# Altium footprint library sm_resistor.PcbLib: 28 footprints (part 1 of 2)
Each footprint in its own frame and in the unit in brackets; x right, y up, seen from the top. Pads: shape width x height; smd on the part's side, far side on the other; paste and mask are expansions set on the pad; w line width, h text height; cw(c..) or ccw(c..) is an arc to the next point about the centre after c.
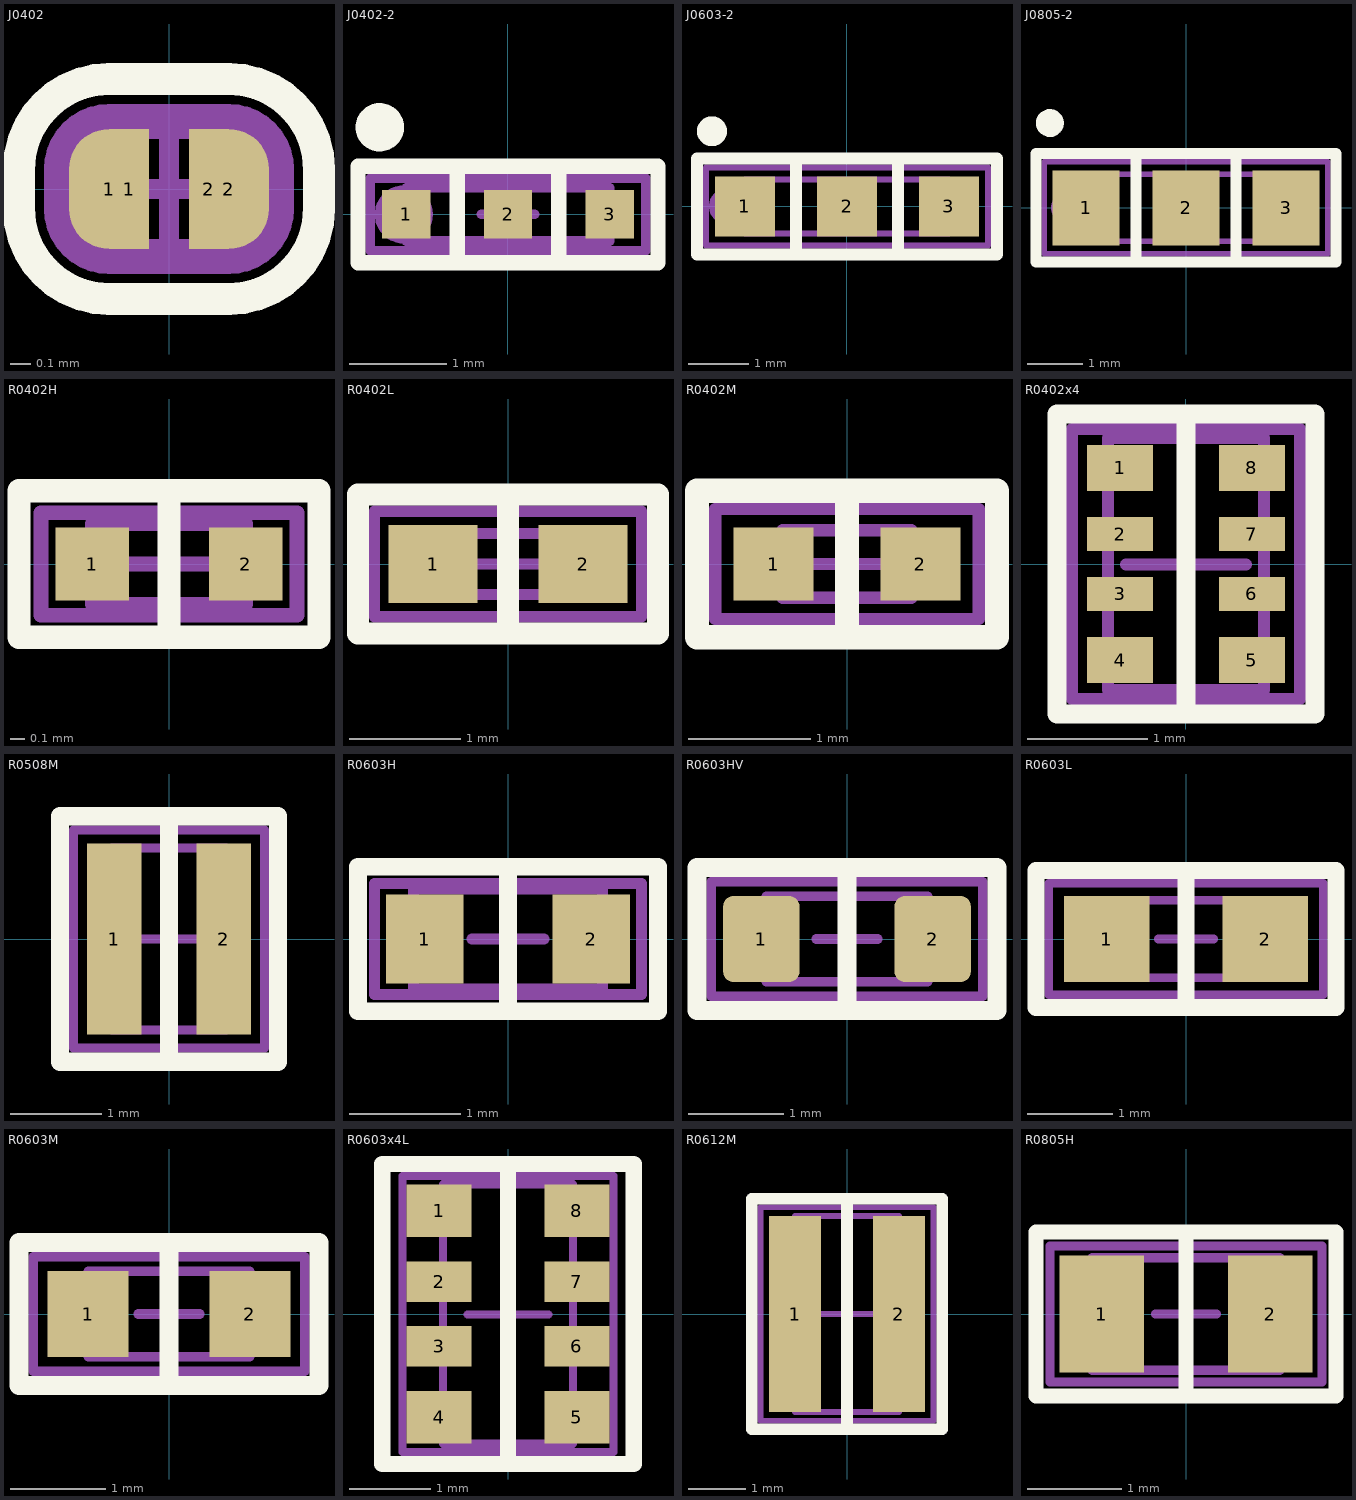
[diagram p0: the footprints below, top view; thin cyan lines are the x and y axes]

## J0402 [mm] "Jumper"
pads (4):
  rrect100% 0.4x0.6 smd paste-0.3: 1(-0.3,0)
  rect 0.2x0.6 smd paste-0.1: 1(-0.2,0) 2(0.2,0)
  oval 0.4x0.6 smd paste-0.3: 2(0.3,0)
Top Overlay:
  lines w0.16: -0.75,-0.1 ccw(c-0.3,-0.1) -0.3,-0.55 0.3,-0.55 ccw(c0.3,-0.1) 0.75,-0.1 0.75,0.1 ccw(c0.3,0.1) 0.3,0.55 -0.3,0.55 ccw(c-0.3,0.1) -0.75,0.1 -0.75,-0.1
Mechanical 13:
  lines w0.1: -0.275,0 0.275,0 ; 0,-0.275 0,0.275 ; -0.5,-0.1 ccw(c-0.3,-0.1) -0.3,-0.3 0.3,-0.3 ccw(c0.3,-0.1) 0.5,-0.1 0.5,0.1 ccw(c0.3,0.1) 0.3,0.3 -0.3,0.3 ccw(c-0.3,0.1) -0.5,0.1 -0.5,-0.1
Mechanical 15:
  lines w0.1: -0.575,-0.1 ccw(c-0.3,-0.1) -0.3,-0.375 0.3,-0.375 ccw(c0.3,-0.1) 0.575,-0.1 0.575,0.1 ccw(c0.3,0.1) 0.3,0.375 -0.3,0.375 ccw(c-0.3,0.1) -0.575,0.1 -0.575,-0.1
  text ".Designator" at -0.45,-0.25 h0.5
3D body: height 0.1, standoff 0, extent -0.299,-0.299 0.299,0.3

## J0402-2 [mm] "Chip Resistor, 2-Leads, Body 1.0x0.5mm, 2 Positions Jumper"
height 0.4
pads (3):
  rect 0.5x0.5 smd: 1(-1.05,0) 2(0,0) 3(1.05,0)
Top Overlay:
  circle w0.25: c-1.325,0.9 r0.125
  lines w0.16: -0.525,-0.5 -0.525,0.5 ; 0.525,-0.5 0.525,0.5 ; -1.55,-0.5 1.55,-0.5 1.55,0.5 -1.55,0.5 -1.55,-0.5
Mechanical 13:
  lines w0.1: -0.275,0 0.275,0 ; 0,-0.275 0,0.275 ; -1.05,-0.275 1.05,-0.275 1.05,0.275 -1.05,0.275 -1.05,-0.275
Mechanical 15:
  circle w0.1: c-1.076,0 r0.251
  lines w0.1: -1.425,-0.375 1.425,-0.375 1.425,0.375 -1.425,0.375 -1.425,-0.375
  text ".Designator" at -1.325,-0.25 h0.5
3D body: height 0.35, standoff 0, extent -0.225,-0.25 0.025,0.25
3D body: height 0.35, standoff 0, extent -1.075,-0.25 -0.825,0.25
3D body: height 0.35, standoff 0, extent -0.825,-0.25 -0.225,0.25

## J0603-2 [mm] "Chip Resistor, 2-Leads, Body 1.6x0.8mm - 2 Positions Jumper"
height 0.5
pads (3):
  rect 1x1 smd: 1(-1.7,0) 2(0,0) 3(1.7,0)
Top Overlay:
  circle w0.25: c-2.25,1.25 r0.125
  lines w0.2: -0.85,-0.8 -0.85,0.8 ; 0.85,-0.8 0.85,0.8 ; -2.5,-0.8 -2.5,0.8 2.5,0.8 2.5,-0.8 -2.5,-0.8
Mechanical 13:
  lines w0.1: -0.325,0 0.325,0 ; 0,-0.325 0,0.325 ; -1.7,-0.45 1.7,-0.45 1.7,0.45 -1.7,0.45 -1.7,-0.45
Mechanical 15:
  circle w0.1: c-2.001,0 r0.251
  lines w0.1: -2.35,-0.65 2.35,-0.65 2.35,0.65 -2.35,0.65 -2.35,-0.65
  text ".Designator" at -1.95,-0.225 h0.5
3D body: height 0.45, standoff 0, extent -1.35,-0.4 -0.35,0.4
3D body: height 0.45, standoff 0, extent -1.65,-0.4 -1.35,0.4
3D body: height 0.45, standoff 0, extent -0.35,-0.4 -0.05,0.4

## J0805-2 [mm] "Chip Resistor, 2-Leads, Body 2.0x1.3mm, 2 Positions Jumper"
height 0.7
pads (3):
  rect 1.2x1.35 smd: 1(-1.8,0) 2(0,0) 3(1.8,0)
Top Overlay:
  circle w0.25: c-2.45,1.525 r0.125
  lines w0.2: -0.9,-0.975 -0.9,0.975 ; 0.9,-0.975 0.9,0.975 ; -2.7,-0.975 2.7,-0.975 2.7,0.975 -2.7,0.975 -2.7,-0.975
Mechanical 13:
  lines w0.1: -0.325,0 0.325,0 ; 0,-0.325 0,0.325 ; -1.9,-0.6 1.9,-0.6 1.9,0.6 -1.9,0.6 -1.9,-0.6
Mechanical 15:
  circle w0.1: c-2.126,0 r0.251
  lines w0.1: -2.55,-0.825 -2.55,0.825 2.55,0.825 2.55,-0.825 -2.55,-0.825
  text ".Designator" at -1.475,-0.225 h0.5
3D body: height 0.6, standoff 0, extent -1.5,-0.6 -0.3,0.6
3D body: height 0.6, standoff 0, extent -1.9,-0.6 -1.5,0.6
3D body: height 0.6, standoff 0, extent -0.3,-0.6 0.1,0.6

## R0402H [mm] "Chip Resistor, 2-Leads, Body 1.0x0.5mm, IPC High Density"
height 0.4
pads (2):
  rect 0.5x0.5 smd: 1(-0.525,0) 2(0.525,0)
Top Overlay:
  lines w0.16: 0,-0.5 0,0.5 ; -1.025,-0.5 -1.025,0.5 1.025,0.5 1.025,-0.5 -1.025,-0.5
Mechanical 13:
  lines w0.1: -0.275,0 0.275,0 ; 0,-0.275 0,0.275 ; -0.525,-0.275 -0.525,0.275 0.525,0.275 0.525,-0.275 -0.525,-0.275
Mechanical 15:
  lines w0.1: -0.875,-0.35 -0.875,0.35 0.875,0.35 0.875,-0.35 -0.875,-0.35
  text ".Designator" at -0.8,-0.25 h0.5
3D body: height 0.35, standoff 0, extent -0.3,-0.25 0.3,0.25
3D body: height 0.35, standoff 0, extent -0.55,-0.25 -0.3,0.25
3D body: height 0.35, standoff 0, extent 0.3,-0.25 0.55,0.25

## R0402L [mm] "Chip Resistor, 2-Leads, Body 1.0x0.5mm, IPC Low Density"
height 0.35
pads (2):
  rect 0.8x0.7 smd: 1(-0.675,0) 2(0.675,0)
Top Overlay:
  lines w0.2: 0,-0.625 0,0.625 ; -1.35,-0.625 1.35,-0.625 1.35,0.625 -1.35,0.625 -1.35,-0.625
Mechanical 13:
  lines w0.1: -0.275,0 0.275,0 ; 0,-0.275 0,0.275 ; -0.525,-0.275 0.525,-0.275 0.525,0.275 -0.525,0.275 -0.525,-0.275
Mechanical 15:
  lines w0.1: -1.2,-0.475 1.2,-0.475 1.2,0.475 -1.2,0.475 -1.2,-0.475
  text ".Designator" at -0.8,-0.25 h0.5
3D body: height 0.35, standoff 0, extent 0.3,-0.25 0.55,0.25
3D body: height 0.35, standoff 0, extent -0.55,-0.25 -0.3,0.25
3D body: height 0.35, standoff 0, extent -0.3,-0.25 0.3,0.25

## R0402M [mm] "Chip Resistor, 2-Leads, Body 1.0x0.5mm, IPC Medium Density"
height 0.35
pads (2):
  rect 0.65x0.6 smd: 1(-0.6,0) 2(0.6,0)
Top Overlay:
  lines w0.2: 0,-0.6 0,0.6 ; -1.225,-0.6 1.225,-0.6 1.225,0.6 -1.225,0.6 -1.225,-0.6
Mechanical 13:
  lines w0.1: -0.275,0 0.275,0 ; 0,-0.275 0,0.275 ; -0.525,-0.275 0.525,-0.275 0.525,0.275 -0.525,0.275 -0.525,-0.275
Mechanical 15:
  lines w0.1: -1.075,-0.45 1.075,-0.45 1.075,0.45 -1.075,0.45 -1.075,-0.45
  text ".Designator" at -0.8,-0.25 h0.5
3D body: height 0.35, standoff 0, extent 0.3,-0.25 0.55,0.25
3D body: height 0.35, standoff 0, extent -0.55,-0.25 -0.3,0.25
3D body: height 0.35, standoff 0, extent -0.3,-0.25 0.3,0.25

## R0402x4 [mm]
pads (8):
  rect 0.55x0.38 smd: 1(-0.55,0.8) 4(-0.55,-0.8) 5(0.55,-0.8) 8(0.55,0.8)
  rect 0.55x0.28 smd: 2(-0.55,0.25) 3(-0.55,-0.25) 6(0.55,-0.25) 7(0.55,0.25)
Top Overlay:
  lines w0.16: 0,-1.25 0,1.25 ; -1.075,-1.25 -1.075,1.25 1.075,1.25 1.075,-1.25 -1.075,-1.25
Mechanical 13:
  lines w0.1: -0.5,-0.005 0.5,-0.005 ; 0,-0.505 0,0.495 ; -0.65,-1.05 -0.65,1.05 0.65,1.05 0.65,-1.05 -0.65,-1.05
Mechanical 15:
  lines w0.1: -0.95,-1.125 -0.95,1.125 0.95,1.125 0.95,-1.125 -0.95,-1.125
  text ".Designator" at 0.2,-1.1 h0.5
3D body "SW3dPS-YC124.step": height 0.36, standoff 0, extent -0.5,-1.005 0.5,0.995

## R0508M [mm] "Chip Resistor, 2-Leads, Body 2.0x1.25mm, IPC Medium Density"
height 0.5
pads (2):
  rect 0.6x2.1 smd: 1(-0.6,0) 2(0.6,0)
Top Overlay:
  lines w0.2: 0,-1.25 0,1.35 ; -1.2,-1.35 1.2,-1.35 1.2,1.35 -1.2,1.35 -1.2,-1.35
Mechanical 13:
  lines w0.1: -0.5,0 0.5,0 ; 0,-0.5 0,0.5 ; -0.625,-1 -0.625,1 0.625,1 0.625,-1 -0.625,-1
Mechanical 15:
  lines w0.1: -1.05,-1.2 1.05,-1.2 1.05,1.2 -1.05,1.2 -1.05,-1.2
  text ".Designator" at -1.1,-0.225 h0.6
3D body "User Library-R220CurrentSense.STEP": height 0.51, standoff -0.01, extent -0.635,-1 0.635,1

## R0603H [mm] "Chip Resistor, 2-Leads, Body 1.6x0.8mm, IPC High Density"
height 0.45
pads (2):
  rect 0.7x0.8 smd: 1(-0.75,0) 2(0.75,0)
Top Overlay:
  lines w0.16: 0,-0.65 0,0.65 ; -1.35,-0.65 1.35,-0.65 1.35,0.65 -1.35,0.65 -1.35,-0.65
Mechanical 13:
  lines w0.1: -0.325,0 0.325,0 ; 0,-0.325 0,0.325 ; -0.85,-0.45 -0.85,0.45 0.85,0.45 0.85,-0.45 -0.85,-0.45
Mechanical 15:
  lines w0.1: -1.2,-0.5 -1.2,0.5 1.2,0.5 1.2,-0.5 -1.2,-0.5
  text ".Designator" at -1.1,-0.225 h0.5
3D body: height 0.45, standoff 0, extent 0.5,-0.4 0.8,0.4
3D body: height 0.45, standoff 0, extent -0.8,-0.4 -0.5,0.4
3D body: height 0.45, standoff 0, extent -0.5,-0.4 0.5,0.4

## R0603HV [mm] "Chip Resistor, 2-Leads, Body 1.6x0.8mm, IPC High Voltage"
height 0.5
pads (2):
  rrect25% 0.8x0.9 smd: 1(-0.9,0) 2(0.9,0)
Top Overlay:
  lines w0.2: 0,-0.75 0,0.75 ; -1.575,-0.75 -1.575,0.75 1.575,0.75 1.575,-0.75 -1.575,-0.75
Mechanical 13:
  lines w0.1: -0.325,0 0.325,0 ; 0,-0.325 0,0.325 ; -0.85,-0.45 0.85,-0.45 0.85,0.45 -0.85,0.45 -0.85,-0.45
Mechanical 15:
  lines w0.1: -1.425,-0.6 1.425,-0.6 1.425,0.6 -1.425,0.6 -1.425,-0.6
  text ".Designator" at -1.1,-0.225 h0.5
3D body: height 0.45, standoff 0, extent -0.5,-0.4 0.5,0.4
3D body: height 0.45, standoff 0, extent -0.8,-0.4 -0.5,0.4
3D body: height 0.45, standoff 0, extent 0.5,-0.4 0.8,0.4

## R0603L [mm] "Chip Resistor, 2-Leads, Body 1.6x0.8mm, IPC Low Density"
height 0.5
pads (2):
  rect 1x1 smd: 1(-0.925,0) 2(0.925,0)
Top Overlay:
  lines w0.2: 0,-0.8 0,0.8 ; -1.75,-0.8 1.75,-0.8 1.75,0.8 -1.75,0.8 -1.75,-0.8
Mechanical 13:
  lines w0.1: -0.325,0 0.325,0 ; 0,-0.325 0,0.325 ; -0.85,-0.45 -0.85,0.45 0.85,0.45 0.85,-0.45 -0.85,-0.45
Mechanical 15:
  lines w0.1: -1.6,-0.65 -1.6,0.65 1.6,0.65 1.6,-0.65 -1.6,-0.65
  text ".Designator" at -1.1,-0.225 h0.5
3D body: height 0.45, standoff 0, extent 0.5,-0.4 0.8,0.4
3D body: height 0.45, standoff 0, extent -0.8,-0.4 -0.5,0.4
3D body: height 0.45, standoff 0, extent -0.5,-0.4 0.5,0.4

## R0603M [mm] "Chip Resistor, 2-Leads, Body 1.6x0.8mm, IPC Medium Density"
height 0.5
pads (2):
  rect 0.85x0.9 smd: 1(-0.85,0) 2(0.85,0)
Top Overlay:
  lines w0.2: 0,-0.75 0,0.75 ; -1.575,-0.75 1.575,-0.75 1.575,0.75 -1.575,0.75 -1.575,-0.75
Mechanical 13:
  lines w0.1: -0.325,0 0.325,0 ; 0,-0.325 0,0.325 ; -0.85,-0.45 -0.85,0.45 0.85,0.45 0.85,-0.45 -0.85,-0.45
Mechanical 15:
  lines w0.1: -1.425,-0.6 -1.425,0.6 1.425,0.6 1.425,-0.6 -1.425,-0.6
  text ".Designator" at -1.1,-0.225 h0.5
3D body: height 0.45, standoff 0, extent 0.5,-0.4 0.8,0.4
3D body: height 0.45, standoff 0, extent -0.8,-0.4 -0.5,0.4
3D body: height 0.45, standoff 0, extent -0.5,-0.4 0.5,0.4

## R0603x4L [mm] "Chip Resistor Array"
pads (8):
  rect 0.8x0.65 smd: 1(-0.85,1.275) 4(-0.85,-1.275) 5(0.85,-1.275) 8(0.85,1.275)
  rect 0.8x0.5 smd: 2(-0.85,0.4) 3(-0.85,-0.4) 6(0.85,-0.4) 7(0.85,0.4)
Top Overlay:
  lines w0.2: 0,-1.85 0,1.85 ; -1.55,-1.85 1.55,-1.85 1.55,1.85 -1.55,1.85 -1.55,-1.85
Mechanical 13:
  lines w0.1: -0.5,-0.005 0.5,-0.005 ; 0,-0.505 0,0.495 ; -0.8,-1.6 0.8,-1.6 0.8,1.6 -0.8,1.6 -0.8,-1.6
Mechanical 15:
  lines w0.1: -1.3,-1.7 1.3,-1.7 1.3,1.7 -1.3,1.7 -1.3,-1.7
  text ".Designator" at 0.2,-1.1 h0.5
3D body "User Library-Array-1206-4Way-Var2-1.STEP": height 0.5, standoff 0, extent -0.8,-1.605 0.8,1.595

## R0612M [mm] "Chip Resistor, 2-Leads, Body 3.2x1.6mm, IPC Medium Density"
height 0.7
pads (2):
  rect 0.9x3.4 smd: 1(-0.9,0) 2(0.9,0)
Top Overlay:
  lines w0.2: 0,-2 0,2 ; -1.65,-2 1.65,-2 1.65,2 -1.65,2 -1.65,-2
Mechanical 13:
  lines w0.1: -0.5,0 0.5,0 ; 0,-0.5 0,0.5 ; -0.9,-1.7 -0.9,1.7 0.9,1.7 0.9,-1.7 -0.9,-1.7
Mechanical 15:
  lines w0.1: -1.5,-1.85 1.5,-1.85 1.5,1.85 -1.5,1.85 -1.5,-1.85
  text ".Designator" at -1.1,-0.225 h0.5
3D body "1632-M.stp": height 0.61, standoff 0, extent -0.902,-1.702 0.902,1.702

## R0805H [mm] "Chip Resistor, 2-Leads, Body 2.0x1.3mm, IPC High Density"
height 0.7
pads (2):
  rect 0.9x1.25 smd: 1(-0.9,0) 2(0.9,0)
Top Overlay:
  lines w0.16: 0,-0.875 0,0.875 ; -1.6,-0.875 -1.6,0.875 1.6,0.875 1.6,-0.875 -1.6,-0.875
Mechanical 13:
  lines w0.1: -0.325,0 0.325,0 ; 0,-0.325 0,0.325 ; -1,-0.6 1,-0.6 1,0.6 -1,0.6 -1,-0.6
Mechanical 15:
  lines w0.1: -1.45,-0.725 -1.45,0.725 1.45,0.725 1.45,-0.725 -1.45,-0.725
  text ".Designator" at -1.25,-0.225 h0.5
3D body: height 0.6, standoff 0, extent -0.6,-0.6 0.6,0.6
3D body: height 0.6, standoff 0, extent -1,-0.6 -0.6,0.6
3D body: height 0.6, standoff 0, extent 0.6,-0.6 1,0.6